# Altium integrated library Linear Technology Power Management LED Driver ICs.IntLib: 490 symbols (part 8 of 48)
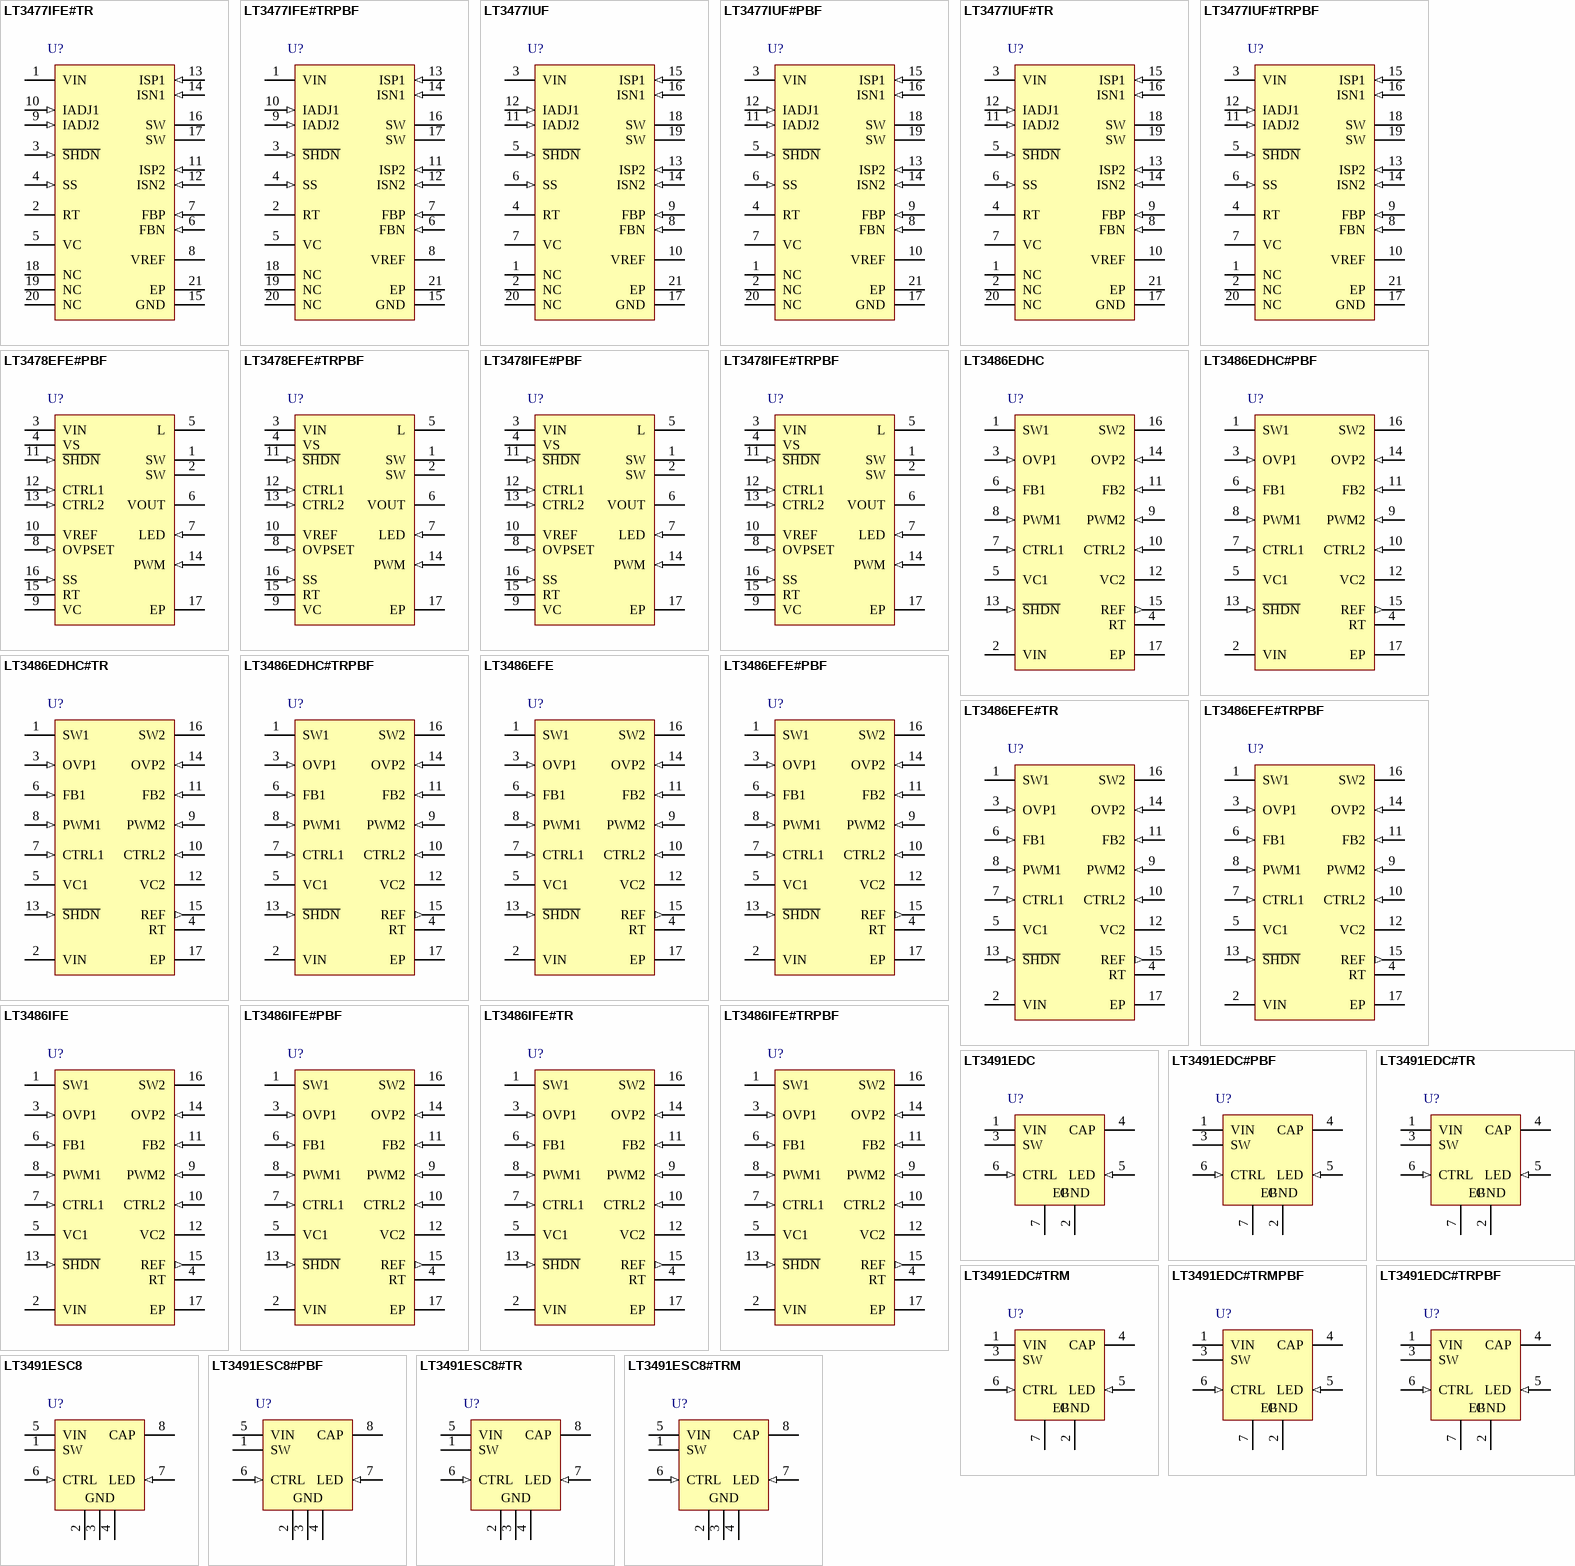
[diagram p27: symbols LT3477IFE#TR to LT3491ESC8#TRM]

## LT3477IUF
designator U?
3 A, DC/DC Converter with Dual Rail-to-Rail Current Sense, 2.3 to 25 V Vin, 40 V Vout MAX, 20-pin QFN (UF20), -40 to 125 degC; Manufacturer: Linear Technology; PartNumber: LT3477IUF; Topology: Buck, Boost, Buck-Boost; Vin Min(V): 2.3; DatasheetVersion: Rev. C; PackageVersion: Rev. A, 10/2010; PackageReference: UF20; PackageDescription: 20-Pin Plastic QFN, Body 4 x 4 mm, Pitch 0.5 mm; RoHS: FALSE; Mounting Technology: Surface Mount; Code_JEDEC: MO-220; ComponentLink1Description: Manufacturer URL; ComponentLink1URL: http://www.linear.com/; ComponentLink2Description: Datasheet; ComponentLink2URL: http://cds.linear.com/docs/en/datasheet/3477fc.pdf; ComponentLink3Description: Package Specification; ComponentLink3URL: http://cds.linear.com/docs/en/packaging/QFN_20_05-08-1710.pdf
footprint LT-UF-20_N (QFN, 20-Leads, Body 4.1x4.1mm, Pitch 0.5mm, Thermal Pad 2.45x2.45mm, IPC Medium Density)
footprint LT-UF-20_L (QFN, 20-Leads, Body 4.1x4.1mm, Pitch 0.5mm, Thermal Pad 2.45x2.45mm, IPC High Density)
footprint LT-UF-20_M (QFN, 20-Leads, Body 4.1x4.1mm, Pitch 0.5mm, Thermal Pad 2.45x2.45mm, IPC Low Density)
pins: 1 NC "No Connect Pin. Okay to connect to ground or VIN, or to float.", 2 NC "No Connect Pin. Okay to connect to ground or VIN, or to float.", 3 VIN (power) "Input Supply. Must be locally bypassed. Powers the internal control circuitry.", 4 RT "Timing Resistor Pin. Adjusts the switching frequency. Connect a 17.2k resistor between RT and GND for a 1MHz switching frequency. Do not leave this pin open. See Table 4 for additional RT values and switching frequencies.", 5 ~{SHDN} (in) "Shutdown. Tie to 2V or greater to enable the device. Tie below 0.3V to turn off the device", 6 SS (in) "Soft-Start. Place a soft-start capacitor here. Leave floating if not in use.", 7 VC "Compensation Pin for Error Amplifier. Connect a series RC from this pin to GND. Typical values are 1kohm and 4.7nF.", 8 FBN (in) "The Inverting Input to the Error Amplifier. Connect resistive divider tap here for positive output voltage.", 9 FBP (in) "The Noninverting Input to the Error Amplifier. Connect resistive divider tap here for negative output voltage", 10 VREF "Bandgap Voltage Reference. Internally set to 1.235V. Connect this pin to FBP if generating a positive output or to an external resistor divider if generating a negative voltage. This pin can provide up  to 100uA of current (See Datasheet)", 11 IADJ2 (in) "Second Current Sense Adjustment. Setting IADJ2 to be less than 625mV leads to adjustment of the sensed voltage of the second current sense amplifier linearly. If IADJ2 is tied to higher than 650mV, the default current sense (See Datasheet)", 12 IADJ1 (in) "First Current Sense Adjustment. Setting IADJ1 to be less than 625mV leads to adjustment of the sensed voltage of the first current sense amplifier linearly. If IADJ1 is tied to higher than 650mV, the default current sense (See Datasheet)", 13 ISP2 (in) "Second Current Sense (+) Pin. The noninverting input to the second current sense amplifier. Connect to ISN2 if not used.", 14 ISN2 (in) "Second Current Sense (-) Pin. The inverting input to the second current sense amplifier. Connect to ISP2 if not used.", 15 ISP1 (in) "First Current Sense (+) Pin. The noninverting input to the first current sense amplifier. Connect to ISN1 if not used.", 16 ISN1 (in) "First Current Sense (-) Pin. The inverting input to the first current sense amplifier. Connect to ISP1 if not used.", 17 GND (power) "Ground. Tie directly to local ground plane.", 18 SW (power) "Switch Pins. Collector of the internal NPN power switch. Connect the inductor and diode here and minimize the metal trace area connected to this pin to minimize electromagnetic interference.", 19 SW (power) "Switch Pins. Collector of the internal NPN power switch. Connect the inductor and diode here and minimize the metal trace area connected to this pin to minimize electromagnetic interference.", 20 NC "No Connect Pin. Okay to connect to ground or VIN, or to float.", 21 EP (power) "Power Ground. Must be soldered to PCB ground for electrical contact and rated thermal performance."

## LT3477IUF#PBF
designator U?
3 A, DC/DC Converter with Dual Rail-to-Rail Current Sense, 2.3 to 25 V Vin, 40 V Vout MAX, 20-pin QFN (UF20), -40 to 125 degC, Pb-Free; Manufacturer: Linear Technology; PartNumber: LT3477IUF#PBF; Topology: Buck, Boost, Buck-Boost; Vin Min(V): 2.3; DatasheetVersion: Rev. C; PackageVersion: Rev. A, 10/2010; PackageReference: UF20; PackageDescription: 20-Pin Plastic QFN, Body 4 x 4 mm, Pitch 0.5 mm; Supplier 1: Digi-Key; Supplier Part Number 1: LT3477IUF#PBF-ND; Supplier 2: Farnell; Supplier Part Number 2: 2294907; Supplier 3: Newark; Supplier Part Number 3: 57M8322; RoHS: TRUE; Mounting Technology: Surface Mount; Code_JEDEC: MO-220; ComponentLink1Description: Manufacturer URL; ComponentLink1URL: http://www.linear.com/; ComponentLink2Description: Datasheet; ComponentLink2URL: http://cds.linear.com/docs/en/datasheet/3477fc.pdf; ComponentLink3Description: Package Specification; ComponentLink3URL: http://cds.linear.com/docs/en/packaging/QFN_20_05-08-1710.pdf
footprint LT-UF-20_N (QFN, 20-Leads, Body 4.1x4.1mm, Pitch 0.5mm, Thermal Pad 2.45x2.45mm, IPC Medium Density)
footprint LT-UF-20_L (QFN, 20-Leads, Body 4.1x4.1mm, Pitch 0.5mm, Thermal Pad 2.45x2.45mm, IPC High Density)
footprint LT-UF-20_M (QFN, 20-Leads, Body 4.1x4.1mm, Pitch 0.5mm, Thermal Pad 2.45x2.45mm, IPC Low Density)
pins: 1 NC "No Connect Pin. Okay to connect to ground or VIN, or to float.", 2 NC "No Connect Pin. Okay to connect to ground or VIN, or to float.", 3 VIN (power) "Input Supply. Must be locally bypassed. Powers the internal control circuitry.", 4 RT "Timing Resistor Pin. Adjusts the switching frequency. Connect a 17.2k resistor between RT and GND for a 1MHz switching frequency. Do not leave this pin open. See Table 4 for additional RT values and switching frequencies.", 5 ~{SHDN} (in) "Shutdown. Tie to 2V or greater to enable the device. Tie below 0.3V to turn off the device", 6 SS (in) "Soft-Start. Place a soft-start capacitor here. Leave floating if not in use.", 7 VC "Compensation Pin for Error Amplifier. Connect a series RC from this pin to GND. Typical values are 1kohm and 4.7nF.", 8 FBN (in) "The Inverting Input to the Error Amplifier. Connect resistive divider tap here for positive output voltage.", 9 FBP (in) "The Noninverting Input to the Error Amplifier. Connect resistive divider tap here for negative output voltage", 10 VREF "Bandgap Voltage Reference. Internally set to 1.235V. Connect this pin to FBP if generating a positive output or to an external resistor divider if generating a negative voltage. This pin can provide up  to 100uA of current (See Datasheet)", 11 IADJ2 (in) "Second Current Sense Adjustment. Setting IADJ2 to be less than 625mV leads to adjustment of the sensed voltage of the second current sense amplifier linearly. If IADJ2 is tied to higher than 650mV, the default current sense (See Datasheet)", 12 IADJ1 (in) "First Current Sense Adjustment. Setting IADJ1 to be less than 625mV leads to adjustment of the sensed voltage of the first current sense amplifier linearly. If IADJ1 is tied to higher than 650mV, the default current sense (See Datasheet)", 13 ISP2 (in) "Second Current Sense (+) Pin. The noninverting input to the second current sense amplifier. Connect to ISN2 if not used.", 14 ISN2 (in) "Second Current Sense (-) Pin. The inverting input to the second current sense amplifier. Connect to ISP2 if not used.", 15 ISP1 (in) "First Current Sense (+) Pin. The noninverting input to the first current sense amplifier. Connect to ISN1 if not used.", 16 ISN1 (in) "First Current Sense (-) Pin. The inverting input to the first current sense amplifier. Connect to ISP1 if not used.", 17 GND (power) "Ground. Tie directly to local ground plane.", 18 SW (power) "Switch Pins. Collector of the internal NPN power switch. Connect the inductor and diode here and minimize the metal trace area connected to this pin to minimize electromagnetic interference.", 19 SW (power) "Switch Pins. Collector of the internal NPN power switch. Connect the inductor and diode here and minimize the metal trace area connected to this pin to minimize electromagnetic interference.", 20 NC "No Connect Pin. Okay to connect to ground or VIN, or to float.", 21 EP (power) "Power Ground. Must be soldered to PCB ground for electrical contact and rated thermal performance."

## LT3477IUF#TR
designator U?
3 A, DC/DC Converter with Dual Rail-to-Rail Current Sense, 2.3 to 25 V Vin, 40 V Vout MAX, 20-pin QFN (UF20), -40 to 125 degC, Tape and Reel; Manufacturer: Linear Technology; PartNumber: LT3477IUF#TR; Topology: Buck, Boost, Buck-Boost; Vin Min(V): 2.3; DatasheetVersion: Rev. C; PackageVersion: Rev. A, 10/2010; PackageReference: UF20; PackageDescription: 20-Pin Plastic QFN, Body 4 x 4 mm, Pitch 0.5 mm; Packing: Tape and Reel; RoHS: FALSE; Mounting Technology: Surface Mount; Code_JEDEC: MO-220; ComponentLink1Description: Manufacturer URL; ComponentLink1URL: http://www.linear.com/; ComponentLink2Description: Datasheet; ComponentLink2URL: http://cds.linear.com/docs/en/datasheet/3477fc.pdf; ComponentLink3Description: Package Specification; ComponentLink3URL: http://cds.linear.com/docs/en/packaging/QFN_20_05-08-1710.pdf
footprint LT-UF-20_N (QFN, 20-Leads, Body 4.1x4.1mm, Pitch 0.5mm, Thermal Pad 2.45x2.45mm, IPC Medium Density)
footprint LT-UF-20_L (QFN, 20-Leads, Body 4.1x4.1mm, Pitch 0.5mm, Thermal Pad 2.45x2.45mm, IPC High Density)
footprint LT-UF-20_M (QFN, 20-Leads, Body 4.1x4.1mm, Pitch 0.5mm, Thermal Pad 2.45x2.45mm, IPC Low Density)
pins: 1 NC "No Connect Pin. Okay to connect to ground or VIN, or to float.", 2 NC "No Connect Pin. Okay to connect to ground or VIN, or to float.", 3 VIN (power) "Input Supply. Must be locally bypassed. Powers the internal control circuitry.", 4 RT "Timing Resistor Pin. Adjusts the switching frequency. Connect a 17.2k resistor between RT and GND for a 1MHz switching frequency. Do not leave this pin open. See Table 4 for additional RT values and switching frequencies.", 5 ~{SHDN} (in) "Shutdown. Tie to 2V or greater to enable the device. Tie below 0.3V to turn off the device", 6 SS (in) "Soft-Start. Place a soft-start capacitor here. Leave floating if not in use.", 7 VC "Compensation Pin for Error Amplifier. Connect a series RC from this pin to GND. Typical values are 1kohm and 4.7nF.", 8 FBN (in) "The Inverting Input to the Error Amplifier. Connect resistive divider tap here for positive output voltage.", 9 FBP (in) "The Noninverting Input to the Error Amplifier. Connect resistive divider tap here for negative output voltage", 10 VREF "Bandgap Voltage Reference. Internally set to 1.235V. Connect this pin to FBP if generating a positive output or to an external resistor divider if generating a negative voltage. This pin can provide up  to 100uA of current (See Datasheet)", 11 IADJ2 (in) "Second Current Sense Adjustment. Setting IADJ2 to be less than 625mV leads to adjustment of the sensed voltage of the second current sense amplifier linearly. If IADJ2 is tied to higher than 650mV, the default current sense (See Datasheet)", 12 IADJ1 (in) "First Current Sense Adjustment. Setting IADJ1 to be less than 625mV leads to adjustment of the sensed voltage of the first current sense amplifier linearly. If IADJ1 is tied to higher than 650mV, the default current sense (See Datasheet)", 13 ISP2 (in) "Second Current Sense (+) Pin. The noninverting input to the second current sense amplifier. Connect to ISN2 if not used.", 14 ISN2 (in) "Second Current Sense (-) Pin. The inverting input to the second current sense amplifier. Connect to ISP2 if not used.", 15 ISP1 (in) "First Current Sense (+) Pin. The noninverting input to the first current sense amplifier. Connect to ISN1 if not used.", 16 ISN1 (in) "First Current Sense (-) Pin. The inverting input to the first current sense amplifier. Connect to ISP1 if not used.", 17 GND (power) "Ground. Tie directly to local ground plane.", 18 SW (power) "Switch Pins. Collector of the internal NPN power switch. Connect the inductor and diode here and minimize the metal trace area connected to this pin to minimize electromagnetic interference.", 19 SW (power) "Switch Pins. Collector of the internal NPN power switch. Connect the inductor and diode here and minimize the metal trace area connected to this pin to minimize electromagnetic interference.", 20 NC "No Connect Pin. Okay to connect to ground or VIN, or to float.", 21 EP (power) "Power Ground. Must be soldered to PCB ground for electrical contact and rated thermal performance."

## LT3477IUF#TRPBF
designator U?
3 A, DC/DC Converter with Dual Rail-to-Rail Current Sense, 2.3 to 25 V Vin, 40 V Vout MAX, 20-pin QFN (UF20), -40 to 125 degC, Pb-Free, Tape and Reel; Manufacturer: Linear Technology; PartNumber: LT3477IUF#TRPBF; Topology: Buck, Boost, Buck-Boost; Vin Min(V): 2.3; DatasheetVersion: Rev. C; PackageVersion: Rev. A, 10/2010; PackageReference: UF20; PackageDescription: 20-Pin Plastic QFN, Body 4 x 4 mm, Pitch 0.5 mm; Supplier 1: Digi-Key; Supplier Part Number 1: LT3477IUF#TRPBF-ND; Packing: Tape and Reel; RoHS: TRUE; Mounting Technology: Surface Mount; Code_JEDEC: MO-220; ComponentLink1Description: Manufacturer URL; ComponentLink1URL: http://www.linear.com/; ComponentLink2Description: Datasheet; ComponentLink2URL: http://cds.linear.com/docs/en/datasheet/3477fc.pdf; ComponentLink3Description: Package Specification; ComponentLink3URL: http://cds.linear.com/docs/en/packaging/QFN_20_05-08-1710.pdf
footprint LT-UF-20_N (QFN, 20-Leads, Body 4.1x4.1mm, Pitch 0.5mm, Thermal Pad 2.45x2.45mm, IPC Medium Density)
footprint LT-UF-20_L (QFN, 20-Leads, Body 4.1x4.1mm, Pitch 0.5mm, Thermal Pad 2.45x2.45mm, IPC High Density)
footprint LT-UF-20_M (QFN, 20-Leads, Body 4.1x4.1mm, Pitch 0.5mm, Thermal Pad 2.45x2.45mm, IPC Low Density)
pins: 1 NC "No Connect Pin. Okay to connect to ground or VIN, or to float.", 2 NC "No Connect Pin. Okay to connect to ground or VIN, or to float.", 3 VIN (power) "Input Supply. Must be locally bypassed. Powers the internal control circuitry.", 4 RT "Timing Resistor Pin. Adjusts the switching frequency. Connect a 17.2k resistor between RT and GND for a 1MHz switching frequency. Do not leave this pin open. See Table 4 for additional RT values and switching frequencies.", 5 ~{SHDN} (in) "Shutdown. Tie to 2V or greater to enable the device. Tie below 0.3V to turn off the device", 6 SS (in) "Soft-Start. Place a soft-start capacitor here. Leave floating if not in use.", 7 VC "Compensation Pin for Error Amplifier. Connect a series RC from this pin to GND. Typical values are 1kohm and 4.7nF.", 8 FBN (in) "The Inverting Input to the Error Amplifier. Connect resistive divider tap here for positive output voltage.", 9 FBP (in) "The Noninverting Input to the Error Amplifier. Connect resistive divider tap here for negative output voltage", 10 VREF "Bandgap Voltage Reference. Internally set to 1.235V. Connect this pin to FBP if generating a positive output or to an external resistor divider if generating a negative voltage. This pin can provide up  to 100uA of current (See Datasheet)", 11 IADJ2 (in) "Second Current Sense Adjustment. Setting IADJ2 to be less than 625mV leads to adjustment of the sensed voltage of the second current sense amplifier linearly. If IADJ2 is tied to higher than 650mV, the default current sense (See Datasheet)", 12 IADJ1 (in) "First Current Sense Adjustment. Setting IADJ1 to be less than 625mV leads to adjustment of the sensed voltage of the first current sense amplifier linearly. If IADJ1 is tied to higher than 650mV, the default current sense (See Datasheet)", 13 ISP2 (in) "Second Current Sense (+) Pin. The noninverting input to the second current sense amplifier. Connect to ISN2 if not used.", 14 ISN2 (in) "Second Current Sense (-) Pin. The inverting input to the second current sense amplifier. Connect to ISP2 if not used.", 15 ISP1 (in) "First Current Sense (+) Pin. The noninverting input to the first current sense amplifier. Connect to ISN1 if not used.", 16 ISN1 (in) "First Current Sense (-) Pin. The inverting input to the first current sense amplifier. Connect to ISP1 if not used.", 17 GND (power) "Ground. Tie directly to local ground plane.", 18 SW (power) "Switch Pins. Collector of the internal NPN power switch. Connect the inductor and diode here and minimize the metal trace area connected to this pin to minimize electromagnetic interference.", 19 SW (power) "Switch Pins. Collector of the internal NPN power switch. Connect the inductor and diode here and minimize the metal trace area connected to this pin to minimize electromagnetic interference.", 20 NC "No Connect Pin. Okay to connect to ground or VIN, or to float.", 21 EP (power) "Power Ground. Must be soldered to PCB ground for electrical contact and rated thermal performance."

## LT3478EFE#PBF
designator U?
4.5 A Monolithic LED Driver with True Color PWM Dimming, 2.8 to 36 V Vin, 42 V Vout MAX, 16-pin SOP (FE-16-EPV-BC), -40 to 125 degC, Pb-Free; Manufacturer: Linear Technology; PartNumber: LT3478EFE#PBF; Topology: Boost, Buck-Boost, Buck, LED Driver; Vin Min(V): 2.8; PackageVersion: Rev. J, 11/2012; PackageReference: FE-16; PackageDescription: 16-Pin Plastic TSSOP, Body 5 x 4.4 mm, Pitch 0.65 mm; Supplier 1: Digi-Key; Supplier Part Number 1: LT3478EFE#PBF-ND; Supplier 2: Farnell; Supplier Part Number 2: 2294844; RoHS: TRUE; Mounting Technology: Surface Mount; ComponentLink1Description: Manufacturer URL; ComponentLink1URL: http://www.linear.com/; ComponentLink2Description: Datasheet; ComponentLink2URL: http://cds.linear.com/docs/en/datasheet/34781f.pdf; ComponentLink3Description: Package Specification; ComponentLink3URL: http://cds.linear.com/docs/en/packaging/05081663__J_FE16(BC).pdf
footprint LT-FE-16-EPV-BC_N (SOP, 16-Leads, Body 5.1x4.5mm, Pitch 0.65mm, Thermal Pad 3.58x2.94mm, IPC Medium Density)
footprint LT-FE-16-EPV-BC_L (SOP, 16-Leads, Body 5.1x4.5mm, Pitch 0.65mm, Thermal Pad 3.58x2.94mm, IPC High Density)
footprint LT-FE-16-EPV-BC_M (SOP, 16-Leads, Body 5.1x4.5mm, Pitch 0.65mm, Thermal Pad 3.58x2.94mm, IPC Low Density)
pins: 1 SW (power) "Switch Pin. Collector of the internal NPN power switch. Both pins are fused together inside the IC. Connect the inductor and diode here and minimize the metal trace area connected to this pin to minimize EMI.", 2 SW (power) "Switch Pin. Collector of the internal NPN power switch. Both pins are fused together inside the IC. Connect the inductor and diode here and minimize the metal trace area connected to this pin to minimize EMI.", 3 VIN (power) "Input Supply. Must be locally bypassed with a capacitor to ground.", 4 VS (power) "Inductor Supply. Must be locally bypassed with a capacitor to ground. Can be shorted to VIN if only one supply is available (see L (Pin 5) function).", 5 L (power) "Inductor Pin. An internal resistor between VS and L pins monitors inductor current to protect against inrush current. Exceeding 6A immediately turns off the internal NPN power switch and discharges the soft-start pin. Input (See Datasheet)", 6 VOUT (power) "Output voltage of the converter. Connect a capacitor from this pin to ground. Internal circuitry monitors VOUT for protection against open LED faults.", 7 LED (in) "Connect the LED string from this pin to  ground. An internal (LT3478-1)/external (LT3478) resistor between the VOUT and LED pins senses LED current for accurate control.", 8 OVPSET (in) "Programs VOUT overvoltage protection level (OVP) to protect against open LED faults. OVP = (OVPSET ?41)V. OVPSET range is 0.3V to 1V for an OVP range of typically 12.3V to 41V.", 9 VC "Output of the transconductance error amplifier and compensation pin for the converter regulation loop.", 10 VREF "Bandgap Voltage Reference. This pin can supply up to 100uA. Can be used to program CTRL1, CTRL2, OVPSET pin voltages using resistor dividers to ground.", 11 ~{SHDN} (in) "The S\H\D\N\ pin has an accurate 1.4V threshold and can be used to program an undervoltage lockout (UVLO) threshold for system input supply using a resistor divider from supply to ground. A 10uA pin current hysteresis allows (See Datasheet)", 12 CTRL1 (in) "CTRL1 pin voltage is used to program maximum LED current (CTRL2 = VREF). CTRL1 voltage can be set by a resistor divider from VREF or an external voltage source.", 13 CTRL2 (in) "The CTRL2 pin is available for programming a decrease in LED current versus temperature (setting temperature breakpoint and slope). This feature allows the output LED(s) to be programmed for maximum allowable current without (See Datasheet)", 14 PWM (in) "Input pin for PWM dimming control. Above 1V allows converter switching and below 1V disables switching with VC pin level maintained. With an external MOSFET placed in series with the ground side of the LED string, a PWM (See Datasheet)", 15 RT "A resistor to ground programs switching frequency between 200kHz and 2.25MHz.", 16 SS (in) "Soft-Start Pin. Placing a capacitor here programs soft-start timing to limit inductor inrush current during start-up due to the converter. When inductor current exceeds 6A or VOUT exceeds OVP, an internal soft-start latch is (See Datasheet)", 17 EP (power) "The ground for the IC and the converter. The FE package has an Exposed Pad underneath the IC which is the best path for heat out of the package. Pin 17 should be soldered to a continuous copper ground plane under the device (See Datasheet)"

## LT3478EFE#TRPBF
designator U?
4.5 A Monolithic LED Driver with True Color PWM Dimming, 2.8 to 36 V Vin, 42 V Vout MAX, 16-pin SOP (FE-16-EPV-BC), -40 to 125 degC, Pb-Free, Tape and Reel; Manufacturer: Linear Technology; PartNumber: LT3478EFE#TRPBF; Topology: Boost, Buck-Boost, Buck, LED Driver; Vin Min(V): 2.8; PackageVersion: Rev. J, 11/2012; PackageReference: FE-16; PackageDescription: 16-Pin Plastic TSSOP, Body 5 x 4.4 mm, Pitch 0.65 mm; Supplier 1: Digi-Key; Supplier Part Number 1: LT3478EFE#TRPBF-ND; Packing: Tape and Reel; RoHS: TRUE; Mounting Technology: Surface Mount; ComponentLink1Description: Manufacturer URL; ComponentLink1URL: http://www.linear.com/; ComponentLink2Description: Datasheet; ComponentLink2URL: http://cds.linear.com/docs/en/datasheet/34781f.pdf; ComponentLink3Description: Package Specification; ComponentLink3URL: http://cds.linear.com/docs/en/packaging/05081663__J_FE16(BC).pdf
footprint LT-FE-16-EPV-BC_N (SOP, 16-Leads, Body 5.1x4.5mm, Pitch 0.65mm, Thermal Pad 3.58x2.94mm, IPC Medium Density)
footprint LT-FE-16-EPV-BC_L (SOP, 16-Leads, Body 5.1x4.5mm, Pitch 0.65mm, Thermal Pad 3.58x2.94mm, IPC High Density)
footprint LT-FE-16-EPV-BC_M (SOP, 16-Leads, Body 5.1x4.5mm, Pitch 0.65mm, Thermal Pad 3.58x2.94mm, IPC Low Density)
pins: 1 SW (power) "Switch Pin. Collector of the internal NPN power switch. Both pins are fused together inside the IC. Connect the inductor and diode here and minimize the metal trace area connected to this pin to minimize EMI.", 2 SW (power) "Switch Pin. Collector of the internal NPN power switch. Both pins are fused together inside the IC. Connect the inductor and diode here and minimize the metal trace area connected to this pin to minimize EMI.", 3 VIN (power) "Input Supply. Must be locally bypassed with a capacitor to ground.", 4 VS (power) "Inductor Supply. Must be locally bypassed with a capacitor to ground. Can be shorted to VIN if only one supply is available (see L (Pin 5) function).", 5 L (power) "Inductor Pin. An internal resistor between VS and L pins monitors inductor current to protect against inrush current. Exceeding 6A immediately turns off the internal NPN power switch and discharges the soft-start pin. Input (See Datasheet)", 6 VOUT (power) "Output voltage of the converter. Connect a capacitor from this pin to ground. Internal circuitry monitors VOUT for protection against open LED faults.", 7 LED (in) "Connect the LED string from this pin to  ground. An internal (LT3478-1)/external (LT3478) resistor between the VOUT and LED pins senses LED current for accurate control.", 8 OVPSET (in) "Programs VOUT overvoltage protection level (OVP) to protect against open LED faults. OVP = (OVPSET ?41)V. OVPSET range is 0.3V to 1V for an OVP range of typically 12.3V to 41V.", 9 VC "Output of the transconductance error amplifier and compensation pin for the converter regulation loop.", 10 VREF "Bandgap Voltage Reference. This pin can supply up to 100uA. Can be used to program CTRL1, CTRL2, OVPSET pin voltages using resistor dividers to ground.", 11 ~{SHDN} (in) "The S\H\D\N\ pin has an accurate 1.4V threshold and can be used to program an undervoltage lockout (UVLO) threshold for system input supply using a resistor divider from supply to ground. A 10uA pin current hysteresis allows (See Datasheet)", 12 CTRL1 (in) "CTRL1 pin voltage is used to program maximum LED current (CTRL2 = VREF). CTRL1 voltage can be set by a resistor divider from VREF or an external voltage source.", 13 CTRL2 (in) "The CTRL2 pin is available for programming a decrease in LED current versus temperature (setting temperature breakpoint and slope). This feature allows the output LED(s) to be programmed for maximum allowable current without (See Datasheet)", 14 PWM (in) "Input pin for PWM dimming control. Above 1V allows converter switching and below 1V disables switching with VC pin level maintained. With an external MOSFET placed in series with the ground side of the LED string, a PWM (See Datasheet)", 15 RT "A resistor to ground programs switching frequency between 200kHz and 2.25MHz.", 16 SS (in) "Soft-Start Pin. Placing a capacitor here programs soft-start timing to limit inductor inrush current during start-up due to the converter. When inductor current exceeds 6A or VOUT exceeds OVP, an internal soft-start latch is (See Datasheet)", 17 EP (power) "The ground for the IC and the converter. The FE package has an Exposed Pad underneath the IC which is the best path for heat out of the package. Pin 17 should be soldered to a continuous copper ground plane under the device (See Datasheet)"

## LT3478IFE#PBF
designator U?
4.5 A Monolithic LED Driver with True Color PWM Dimming, 2.8 to 36 V Vin, 42 V Vout MAX, 16-pin SOP (FE-16-EPV-BC), -40 to 125 degC, Pb-Free; Manufacturer: Linear Technology; PartNumber: LT3478IFE#PBF; Topology: Boost, Buck-Boost, Buck, LED Driver; Vin Min(V): 2.8; PackageVersion: Rev. J, 11/2012; PackageReference: FE-16; PackageDescription: 16-Pin Plastic TSSOP, Body 5 x 4.4 mm, Pitch 0.65 mm; Supplier 1: Digi-Key; Supplier Part Number 1: LT3478IFE#PBF-ND; Supplier 2: Farnell; Supplier Part Number 2: 1663560; Supplier 3: Newark; Supplier Part Number 3: 57M8331; RoHS: TRUE; Mounting Technology: Surface Mount; ComponentLink1Description: Manufacturer URL; ComponentLink1URL: http://www.linear.com/; ComponentLink2Description: Datasheet; ComponentLink2URL: http://cds.linear.com/docs/en/datasheet/34781f.pdf; ComponentLink3Description: Package Specification; ComponentLink3URL: http://cds.linear.com/docs/en/packaging/05081663__J_FE16(BC).pdf
footprint LT-FE-16-EPV-BC_N (SOP, 16-Leads, Body 5.1x4.5mm, Pitch 0.65mm, Thermal Pad 3.58x2.94mm, IPC Medium Density)
footprint LT-FE-16-EPV-BC_L (SOP, 16-Leads, Body 5.1x4.5mm, Pitch 0.65mm, Thermal Pad 3.58x2.94mm, IPC High Density)
footprint LT-FE-16-EPV-BC_M (SOP, 16-Leads, Body 5.1x4.5mm, Pitch 0.65mm, Thermal Pad 3.58x2.94mm, IPC Low Density)
pins: 1 SW (power) "Switch Pin. Collector of the internal NPN power switch. Both pins are fused together inside the IC. Connect the inductor and diode here and minimize the metal trace area connected to this pin to minimize EMI.", 2 SW (power) "Switch Pin. Collector of the internal NPN power switch. Both pins are fused together inside the IC. Connect the inductor and diode here and minimize the metal trace area connected to this pin to minimize EMI.", 3 VIN (power) "Input Supply. Must be locally bypassed with a capacitor to ground.", 4 VS (power) "Inductor Supply. Must be locally bypassed with a capacitor to ground. Can be shorted to VIN if only one supply is available (see L (Pin 5) function).", 5 L (power) "Inductor Pin. An internal resistor between VS and L pins monitors inductor current to protect against inrush current. Exceeding 6A immediately turns off the internal NPN power switch and discharges the soft-start pin. Input (See Datasheet)", 6 VOUT (power) "Output voltage of the converter. Connect a capacitor from this pin to ground. Internal circuitry monitors VOUT for protection against open LED faults.", 7 LED (in) "Connect the LED string from this pin to  ground. An internal (LT3478-1)/external (LT3478) resistor between the VOUT and LED pins senses LED current for accurate control.", 8 OVPSET (in) "Programs VOUT overvoltage protection level (OVP) to protect against open LED faults. OVP = (OVPSET ?41)V. OVPSET range is 0.3V to 1V for an OVP range of typically 12.3V to 41V.", 9 VC "Output of the transconductance error amplifier and compensation pin for the converter regulation loop.", 10 VREF "Bandgap Voltage Reference. This pin can supply up to 100uA. Can be used to program CTRL1, CTRL2, OVPSET pin voltages using resistor dividers to ground.", 11 ~{SHDN} (in) "The S\H\D\N\ pin has an accurate 1.4V threshold and can be used to program an undervoltage lockout (UVLO) threshold for system input supply using a resistor divider from supply to ground. A 10uA pin current hysteresis allows (See Datasheet)", 12 CTRL1 (in) "CTRL1 pin voltage is used to program maximum LED current (CTRL2 = VREF). CTRL1 voltage can be set by a resistor divider from VREF or an external voltage source.", 13 CTRL2 (in) "The CTRL2 pin is available for programming a decrease in LED current versus temperature (setting temperature breakpoint and slope). This feature allows the output LED(s) to be programmed for maximum allowable current without (See Datasheet)", 14 PWM (in) "Input pin for PWM dimming control. Above 1V allows converter switching and below 1V disables switching with VC pin level maintained. With an external MOSFET placed in series with the ground side of the LED string, a PWM (See Datasheet)", 15 RT "A resistor to ground programs switching frequency between 200kHz and 2.25MHz.", 16 SS (in) "Soft-Start Pin. Placing a capacitor here programs soft-start timing to limit inductor inrush current during start-up due to the converter. When inductor current exceeds 6A or VOUT exceeds OVP, an internal soft-start latch is (See Datasheet)", 17 EP (power) "The ground for the IC and the converter. The FE package has an Exposed Pad underneath the IC which is the best path for heat out of the package. Pin 17 should be soldered to a continuous copper ground plane under the device (See Datasheet)"

## LT3478IFE#TRPBF
designator U?
4.5 A Monolithic LED Driver with True Color PWM Dimming, 2.8 to 36 V Vin, 42 V Vout MAX, 16-pin SOP (FE-16-EPV-BC), -40 to 125 degC, Pb-Free, Tape and Reel; Manufacturer: Linear Technology; PartNumber: LT3478IFE#TRPBF; Topology: Boost, Buck-Boost, Buck, LED Driver; Vin Min(V): 2.8; PackageVersion: Rev. J, 11/2012; PackageReference: FE-16; PackageDescription: 16-Pin Plastic TSSOP, Body 5 x 4.4 mm, Pitch 0.65 mm; Supplier 1: Digi-Key; Supplier Part Number 1: LT3478IFE#TRPBF-ND; Packing: Tape and Reel; RoHS: TRUE; Mounting Technology: Surface Mount; ComponentLink1Description: Manufacturer URL; ComponentLink1URL: http://www.linear.com/; ComponentLink2Description: Datasheet; ComponentLink2URL: http://cds.linear.com/docs/en/datasheet/34781f.pdf; ComponentLink3Description: Package Specification; ComponentLink3URL: http://cds.linear.com/docs/en/packaging/05081663__J_FE16(BC).pdf
footprint LT-FE-16-EPV-BC_N (SOP, 16-Leads, Body 5.1x4.5mm, Pitch 0.65mm, Thermal Pad 3.58x2.94mm, IPC Medium Density)
footprint LT-FE-16-EPV-BC_L (SOP, 16-Leads, Body 5.1x4.5mm, Pitch 0.65mm, Thermal Pad 3.58x2.94mm, IPC High Density)
footprint LT-FE-16-EPV-BC_M (SOP, 16-Leads, Body 5.1x4.5mm, Pitch 0.65mm, Thermal Pad 3.58x2.94mm, IPC Low Density)
pins: 1 SW (power) "Switch Pin. Collector of the internal NPN power switch. Both pins are fused together inside the IC. Connect the inductor and diode here and minimize the metal trace area connected to this pin to minimize EMI.", 2 SW (power) "Switch Pin. Collector of the internal NPN power switch. Both pins are fused together inside the IC. Connect the inductor and diode here and minimize the metal trace area connected to this pin to minimize EMI.", 3 VIN (power) "Input Supply. Must be locally bypassed with a capacitor to ground.", 4 VS (power) "Inductor Supply. Must be locally bypassed with a capacitor to ground. Can be shorted to VIN if only one supply is available (see L (Pin 5) function).", 5 L (power) "Inductor Pin. An internal resistor between VS and L pins monitors inductor current to protect against inrush current. Exceeding 6A immediately turns off the internal NPN power switch and discharges the soft-start pin. Input (See Datasheet)", 6 VOUT (power) "Output voltage of the converter. Connect a capacitor from this pin to ground. Internal circuitry monitors VOUT for protection against open LED faults.", 7 LED (in) "Connect the LED string from this pin to  ground. An internal (LT3478-1)/external (LT3478) resistor between the VOUT and LED pins senses LED current for accurate control.", 8 OVPSET (in) "Programs VOUT overvoltage protection level (OVP) to protect against open LED faults. OVP = (OVPSET ?41)V. OVPSET range is 0.3V to 1V for an OVP range of typically 12.3V to 41V.", 9 VC "Output of the transconductance error amplifier and compensation pin for the converter regulation loop.", 10 VREF "Bandgap Voltage Reference. This pin can supply up to 100uA. Can be used to program CTRL1, CTRL2, OVPSET pin voltages using resistor dividers to ground.", 11 ~{SHDN} (in) "The S\H\D\N\ pin has an accurate 1.4V threshold and can be used to program an undervoltage lockout (UVLO) threshold for system input supply using a resistor divider from supply to ground. A 10uA pin current hysteresis allows (See Datasheet)", 12 CTRL1 (in) "CTRL1 pin voltage is used to program maximum LED current (CTRL2 = VREF). CTRL1 voltage can be set by a resistor divider from VREF or an external voltage source.", 13 CTRL2 (in) "The CTRL2 pin is available for programming a decrease in LED current versus temperature (setting temperature breakpoint and slope). This feature allows the output LED(s) to be programmed for maximum allowable current without (See Datasheet)", 14 PWM (in) "Input pin for PWM dimming control. Above 1V allows converter switching and below 1V disables switching with VC pin level maintained. With an external MOSFET placed in series with the ground side of the LED string, a PWM (See Datasheet)", 15 RT "A resistor to ground programs switching frequency between 200kHz and 2.25MHz.", 16 SS (in) "Soft-Start Pin. Placing a capacitor here programs soft-start timing to limit inductor inrush current during start-up due to the converter. When inductor current exceeds 6A or VOUT exceeds OVP, an internal soft-start latch is (See Datasheet)", 17 EP (power) "The ground for the IC and the converter. The FE package has an Exposed Pad underneath the IC which is the best path for heat out of the package. Pin 17 should be soldered to a continuous copper ground plane under the device (See Datasheet)"

## LT3486EDHC
designator U?
Dual 1.3 A White LED Step-Up Converters with Wide Dimming Range, 2.5 to 24 V Vin, 35.4 V Vout MAX, 16-pin SON (DHC-16), -40 to 85 degC; Manufacturer: Linear Technology; PartNumber: LT3486EDHC; Topology: Boost, LED Driver; Vin Min(V): 2.5; DatasheetVersion: Rev. E; PackageVersion: Jun-10; PackageReference: DHC-16; PackageDescription: 16-Pin Plastic DFN, Body 5 x 3 mm, Pitch 0.5 mm; RoHS: FALSE; Mounting Technology: Surface Mount; Code_JEDEC: MO-229; ComponentLink1Description: Manufacturer URL; ComponentLink1URL: http://www.linear.com/; ComponentLink2Description: Datasheet; ComponentLink2URL: http://cds.linear.com/docs/en/datasheet/3486fe.pdf; ComponentLink3Description: Package Specification; ComponentLink3URL: http://cds.linear.com/docs/en/packaging/DFN_16_05-08-1706.pdf
footprint LT-DHC-16_V (SON, 16-Leads, Body 5x3mm, Pitch 0.5mm, Thermal Pad 4.4X1.65mm)
pins: 1 SW1 (power) "The SW Pins are the Collectors of the Internal Power Transistors. Connect the inductors and Schottky diodes to these pins. Minimize trace area at these pins to minimize EMI.", 2 VIN (power) "Input Supply Pin. Must be locally bypassed with an X5R or X7R type ceramic capacitor.", 3 OVP1 (in) "Output Overvoltage Protection Pins. Connect these pins to the output capacitors. The on-chip voltage detectors monitor the voltages at these pins and limit it to 36V (typ) by turning off the respective switcher and pulling (See Datasheet)", 4 RT "Timing Resistor to Program the Switching Frequency. The switching frequency can be programmed from 200kHz to 2.5MHz.", 5 VC1 "The VC Pins are the Outputs of the Internal Error Amplifier. The voltages at these pins control the peak switch currents. Connect a resistor and capacitor compensation network from these pin to ground.", 6 FB1 (in) "The LT3486 regulates the voltage at each feedback pin to 200mV. Connect the cathode of the lowest LED in the string and the feedback resistor (RFB) to the respective feedback pin.", 7 CTRL1 (in) "The CTRL pins are used to provide dimming and shutdown control for the individual switching converters. Connecting these to ground shuts down the respective converter. As the voltages on these pins is ramped from 0V to 1.8V, (See Datasheet)", 8 PWM1 (in) "The PWM control pins can be used to extend the dimming range for the individual switching converter. The LED current in each string can be controlled down to uA levels by feeding a PWM signal to these pins. When the PWM pin (See Datasheet)", 9 PWM2 (in) "The PWM control pins can be used to extend the dimming range for the individual switching converter. The LED current in each string can be controlled down to uA levels by feeding a PWM signal to these pins. When the PWM pin (See Datasheet)", 10 CTRL2 (in) "The CTRL pins are used to provide dimming and shutdown control for the individual switching converters. Connecting these to ground shuts down the respective converter. As the voltages on these pins is ramped from 0V to 1.8V, (See Datasheet)", 11 FB2 (in) "The LT3486 regulates the voltage at each feedback pin to 200mV. Connect the cathode of the lowest LED in the string and the feedback resistor (RFB) to the respective feedback pin.", 12 VC2 "The VC Pins are the Outputs of the Internal Error Amplifier. The voltages at these pins control the peak switch currents. Connect a resistor and capacitor compensation network from these pin to ground.", 13 ~{SHDN} (in) "Shutdown Pin for the Device. Connect it to 1.6V or higher to enable device; 0.4V or less to disable device.", 14 OVP2 (in) "Output Overvoltage Protection Pins. Connect these pins to the output capacitors. The on-chip voltage detectors monitor the voltages at these pins and limit it to 36V (typ) by turning off the respective switcher and pulling (See Datasheet)", 15 REF (out) "The internal bandgap reference (1.25V) is available at this pin. Bypass with a 0.1uF X5R or X7R ceramic capacitor. Draw no more than 50uA from this pin.", 16 SW2 (power) "The SW Pins are the Collectors of the Internal Power Transistors. Connect the inductors and Schottky diodes to these pins. Minimize trace area at these pins to minimize EMI.", 17 EP (power) "Ground. The exposed pad of the package provides an electrical contact to ground and good thermal connection to the printed circuit board (PCB). Solder the exposed pad to the PCB system ground."

## LT3486EDHC#PBF
designator U?
Dual 1.3 A White LED Step-Up Converters with Wide Dimming Range, 2.5 to 24 V Vin, 35.4 V Vout MAX, 16-pin SON (DHC-16), -40 to 85 degC, Pb-Free; Manufacturer: Linear Technology; PartNumber: LT3486EDHC#PBF; Topology: Boost, LED Driver; Vin Min(V): 2.5; DatasheetVersion: Rev. E; PackageVersion: Jun-10; PackageReference: DHC-16; PackageDescription: 16-Pin Plastic DFN, Body 5 x 3 mm, Pitch 0.5 mm; Supplier 1: Digi-Key; Supplier Part Number 1: LT3486EDHC#PBF-ND; Supplier 2: Newark; Supplier Part Number 2: 57M8402; RoHS: TRUE; Mounting Technology: Surface Mount; Code_JEDEC: MO-229; ComponentLink1Description: Manufacturer URL; ComponentLink1URL: http://www.linear.com/; ComponentLink2Description: Datasheet; ComponentLink2URL: http://cds.linear.com/docs/en/datasheet/3486fe.pdf; ComponentLink3Description: Package Specification; ComponentLink3URL: http://cds.linear.com/docs/en/packaging/DFN_16_05-08-1706.pdf
footprint LT-DHC-16_V (SON, 16-Leads, Body 5x3mm, Pitch 0.5mm, Thermal Pad 4.4X1.65mm)
pins: 1 SW1 (power) "The SW Pins are the Collectors of the Internal Power Transistors. Connect the inductors and Schottky diodes to these pins. Minimize trace area at these pins to minimize EMI.", 2 VIN (power) "Input Supply Pin. Must be locally bypassed with an X5R or X7R type ceramic capacitor.", 3 OVP1 (in) "Output Overvoltage Protection Pins. Connect these pins to the output capacitors. The on-chip voltage detectors monitor the voltages at these pins and limit it to 36V (typ) by turning off the respective switcher and pulling (See Datasheet)", 4 RT "Timing Resistor to Program the Switching Frequency. The switching frequency can be programmed from 200kHz to 2.5MHz.", 5 VC1 "The VC Pins are the Outputs of the Internal Error Amplifier. The voltages at these pins control the peak switch currents. Connect a resistor and capacitor compensation network from these pin to ground.", 6 FB1 (in) "The LT3486 regulates the voltage at each feedback pin to 200mV. Connect the cathode of the lowest LED in the string and the feedback resistor (RFB) to the respective feedback pin.", 7 CTRL1 (in) "The CTRL pins are used to provide dimming and shutdown control for the individual switching converters. Connecting these to ground shuts down the respective converter. As the voltages on these pins is ramped from 0V to 1.8V, (See Datasheet)", 8 PWM1 (in) "The PWM control pins can be used to extend the dimming range for the individual switching converter. The LED current in each string can be controlled down to uA levels by feeding a PWM signal to these pins. When the PWM pin (See Datasheet)", 9 PWM2 (in) "The PWM control pins can be used to extend the dimming range for the individual switching converter. The LED current in each string can be controlled down to uA levels by feeding a PWM signal to these pins. When the PWM pin (See Datasheet)", 10 CTRL2 (in) "The CTRL pins are used to provide dimming and shutdown control for the individual switching converters. Connecting these to ground shuts down the respective converter. As the voltages on these pins is ramped from 0V to 1.8V, (See Datasheet)", 11 FB2 (in) "The LT3486 regulates the voltage at each feedback pin to 200mV. Connect the cathode of the lowest LED in the string and the feedback resistor (RFB) to the respective feedback pin.", 12 VC2 "The VC Pins are the Outputs of the Internal Error Amplifier. The voltages at these pins control the peak switch currents. Connect a resistor and capacitor compensation network from these pin to ground.", 13 ~{SHDN} (in) "Shutdown Pin for the Device. Connect it to 1.6V or higher to enable device; 0.4V or less to disable device.", 14 OVP2 (in) "Output Overvoltage Protection Pins. Connect these pins to the output capacitors. The on-chip voltage detectors monitor the voltages at these pins and limit it to 36V (typ) by turning off the respective switcher and pulling (See Datasheet)", 15 REF (out) "The internal bandgap reference (1.25V) is available at this pin. Bypass with a 0.1uF X5R or X7R ceramic capacitor. Draw no more than 50uA from this pin.", 16 SW2 (power) "The SW Pins are the Collectors of the Internal Power Transistors. Connect the inductors and Schottky diodes to these pins. Minimize trace area at these pins to minimize EMI.", 17 EP (power) "Ground. The exposed pad of the package provides an electrical contact to ground and good thermal connection to the printed circuit board (PCB). Solder the exposed pad to the PCB system ground."

## LT3486EDHC#TR
designator U?
Dual 1.3 A White LED Step-Up Converters with Wide Dimming Range, 2.5 to 24 V Vin, 35.4 V Vout MAX, 16-pin SON (DHC-16), -40 to 85 degC, Tape and Reel; Manufacturer: Linear Technology; PartNumber: LT3486EDHC#TR; Topology: Boost, LED Driver; Vin Min(V): 2.5; DatasheetVersion: Rev. E; PackageVersion: Jun-10; PackageReference: DHC-16; PackageDescription: 16-Pin Plastic DFN, Body 5 x 3 mm, Pitch 0.5 mm; Packing: Tape and Reel; RoHS: FALSE; Mounting Technology: Surface Mount; Code_JEDEC: MO-229; ComponentLink1Description: Manufacturer URL; ComponentLink1URL: http://www.linear.com/; ComponentLink2Description: Datasheet; ComponentLink2URL: http://cds.linear.com/docs/en/datasheet/3486fe.pdf; ComponentLink3Description: Package Specification; ComponentLink3URL: http://cds.linear.com/docs/en/packaging/DFN_16_05-08-1706.pdf
footprint LT-DHC-16_V (SON, 16-Leads, Body 5x3mm, Pitch 0.5mm, Thermal Pad 4.4X1.65mm)
pins: 1 SW1 (power) "The SW Pins are the Collectors of the Internal Power Transistors. Connect the inductors and Schottky diodes to these pins. Minimize trace area at these pins to minimize EMI.", 2 VIN (power) "Input Supply Pin. Must be locally bypassed with an X5R or X7R type ceramic capacitor.", 3 OVP1 (in) "Output Overvoltage Protection Pins. Connect these pins to the output capacitors. The on-chip voltage detectors monitor the voltages at these pins and limit it to 36V (typ) by turning off the respective switcher and pulling (See Datasheet)", 4 RT "Timing Resistor to Program the Switching Frequency. The switching frequency can be programmed from 200kHz to 2.5MHz.", 5 VC1 "The VC Pins are the Outputs of the Internal Error Amplifier. The voltages at these pins control the peak switch currents. Connect a resistor and capacitor compensation network from these pin to ground.", 6 FB1 (in) "The LT3486 regulates the voltage at each feedback pin to 200mV. Connect the cathode of the lowest LED in the string and the feedback resistor (RFB) to the respective feedback pin.", 7 CTRL1 (in) "The CTRL pins are used to provide dimming and shutdown control for the individual switching converters. Connecting these to ground shuts down the respective converter. As the voltages on these pins is ramped from 0V to 1.8V, (See Datasheet)", 8 PWM1 (in) "The PWM control pins can be used to extend the dimming range for the individual switching converter. The LED current in each string can be controlled down to uA levels by feeding a PWM signal to these pins. When the PWM pin (See Datasheet)", 9 PWM2 (in) "The PWM control pins can be used to extend the dimming range for the individual switching converter. The LED current in each string can be controlled down to uA levels by feeding a PWM signal to these pins. When the PWM pin (See Datasheet)", 10 CTRL2 (in) "The CTRL pins are used to provide dimming and shutdown control for the individual switching converters. Connecting these to ground shuts down the respective converter. As the voltages on these pins is ramped from 0V to 1.8V, (See Datasheet)", 11 FB2 (in) "The LT3486 regulates the voltage at each feedback pin to 200mV. Connect the cathode of the lowest LED in the string and the feedback resistor (RFB) to the respective feedback pin.", 12 VC2 "The VC Pins are the Outputs of the Internal Error Amplifier. The voltages at these pins control the peak switch currents. Connect a resistor and capacitor compensation network from these pin to ground.", 13 ~{SHDN} (in) "Shutdown Pin for the Device. Connect it to 1.6V or higher to enable device; 0.4V or less to disable device.", 14 OVP2 (in) "Output Overvoltage Protection Pins. Connect these pins to the output capacitors. The on-chip voltage detectors monitor the voltages at these pins and limit it to 36V (typ) by turning off the respective switcher and pulling (See Datasheet)", 15 REF (out) "The internal bandgap reference (1.25V) is available at this pin. Bypass with a 0.1uF X5R or X7R ceramic capacitor. Draw no more than 50uA from this pin.", 16 SW2 (power) "The SW Pins are the Collectors of the Internal Power Transistors. Connect the inductors and Schottky diodes to these pins. Minimize trace area at these pins to minimize EMI.", 17 EP (power) "Ground. The exposed pad of the package provides an electrical contact to ground and good thermal connection to the printed circuit board (PCB). Solder the exposed pad to the PCB system ground."